# Altium schematic symbol library PWR-LEC.SchLib: 2 symbols
Pins are listed as number, name and electrical type; pins without a type are passive.

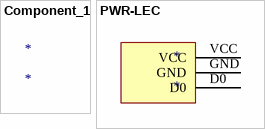
[diagram p0: symbols Component_1 to PWR-LEC]

## Component_1
designator *

## PWR-LEC
designator *
pins: D0, GND, VCC